# Altium footprint library Resistors.PcbLib: 17 footprints (part 2 of 2)
Each footprint in its own frame and in the unit in brackets; x right, y up, seen from the top. Pads: shape width x height; smd on the part's side, far side on the other; paste and mask are expansions set on the pad; w line width, h text height; cw(c..) or ccw(c..) is an arc to the next point about the centre after c.
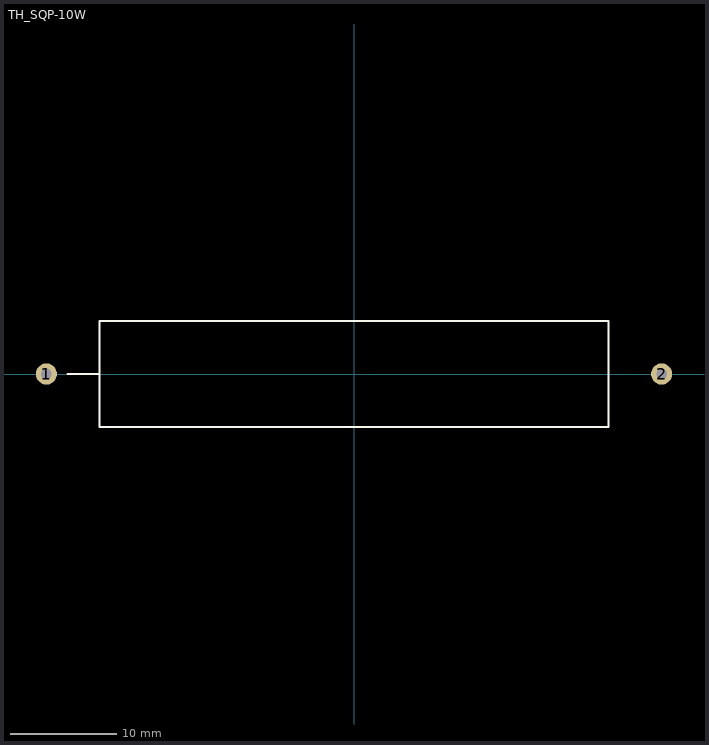
[diagram p1: the footprint, top view; thin cyan lines are the x and y axes]

## TH_SQP-10W [mm]
pads (2):
  round 2 hole 1: 1(-29,0) 2(29,0)
Top Overlay:
  lines w0.2: -27,0 -24,0 ; -24,-5 0,-5 24,-5 24,5 0,5 -24,5 -24,-5
3D body "User Library-SQP-10W.STEP": height 9, standoff -2.5, extent -29.35,-5 29.35,5